# Altium footprint library PcbLib1.PcbLib: 24 footprints (part 1 of 2)
Each footprint in its own frame and in the unit in brackets; x right, y up, seen from the top. Pads: shape width x height; smd on the part's side, far side on the other; paste and mask are expansions set on the pad; w line width, h text height; cw(c..) or ccw(c..) is an arc to the next point about the centre after c.
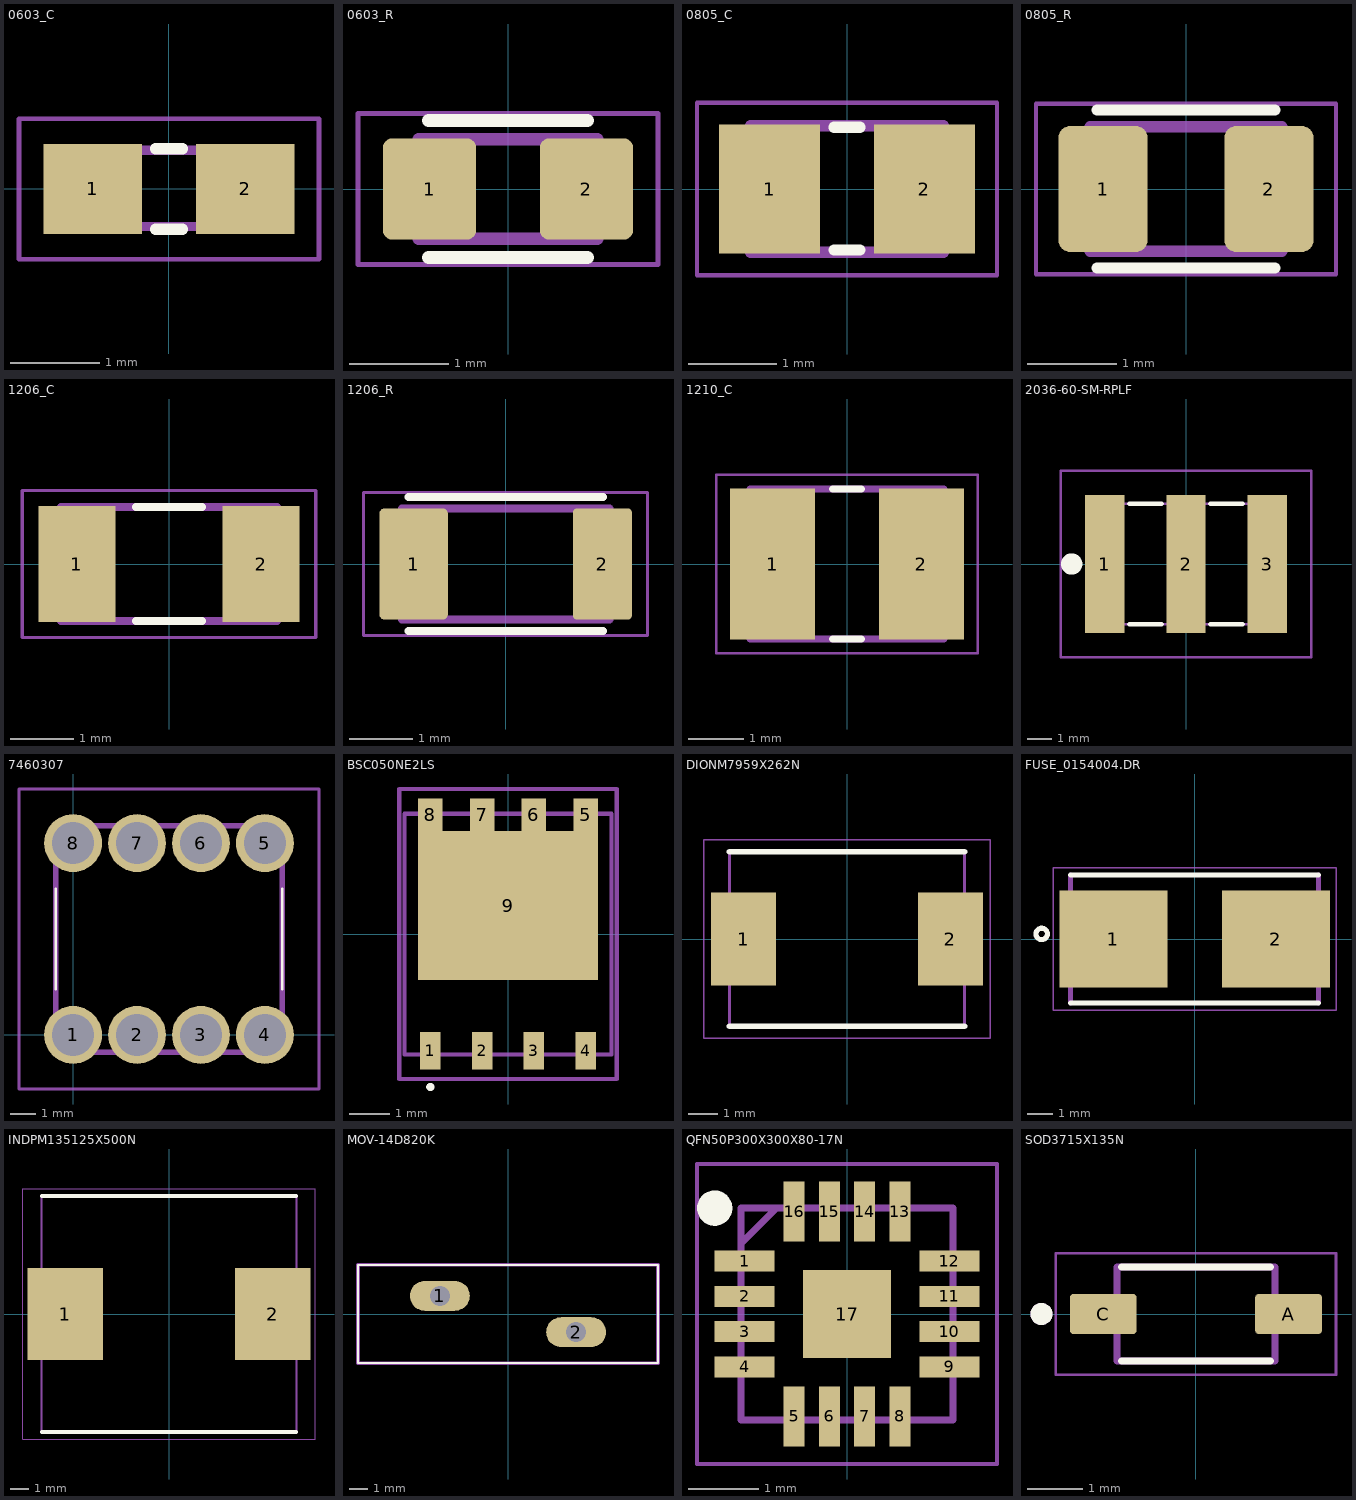
[diagram p0: the footprints below, top view; thin cyan lines are the x and y axes]

## 0603_C [mm]
pads (2):
  rect 1.1x1 smd: 1(-0.85,0) 2(0.85,0)
Top Overlay:
  lines w0.127: -0.15,-0.45 0.15,-0.45 ; -0.15,0.45 0.15,0.45
Mechanical 13:
  region: 0.83,-0.471 0.331,-0.471 0.331,0.48 0.83,0.48
  region: -0.338,-0.47 -0.839,-0.47 -0.839,0.48 -0.338,0.48
  lines w0.102: -0.356,-0.419 0.356,-0.419 ; -0.356,0.432 0.356,0.432
Mechanical 15:
  lines w0.051: -1.673,-0.783 -1.673,0.783 1.673,0.783 1.673,-0.783 -1.673,-0.783
3D body "06033C101MAT2A.STEP": height 0.89, standoff -0.01, extent -0.8,-0.405 0.8,0.405

## 0603_R [mm]
pads (2):
  rrect20% 0.94x1.02 smd: 1(-0.79,0) 2(0.79,0)
Top Overlay:
  lines w0.127: -0.8,-0.69 0.8,-0.69 ; -0.8,0.69 0.8,0.69
Mechanical 13:
  lines w0.127: -0.9,-0.5 -0.9,0.5 0.9,0.5 0.9,-0.5 -0.9,-0.5
Mechanical 15:
  lines w0.05: -1.51,-0.76 -1.51,0.76 1.51,0.76 1.51,-0.76 -1.51,-0.76
3D body "3-1879460-6.STEP": height 0.45, standoff 0, extent -0.8,-0.4 0.8,0.4

## 0805_C [mm]
pads (2):
  rect 1.15x1.47 smd: 1(-0.88,0) 2(0.88,0)
Top Overlay:
  lines w0.127: -0.15,-0.693 0.15,-0.693 ; -0.15,0.704 0.15,0.704
Mechanical 13:
  lines w0.127: -1.1,-0.72 -1.1,0.72 1.1,0.72 1.1,-0.72 -1.1,-0.72
Mechanical 15:
  lines w0.05: -1.708,-0.983 -1.708,0.983 1.708,0.983 1.708,-0.983 -1.708,-0.983
3D body "step_temp.STEP": height 1.45, standoff 0, extent -1,-0.625 1,0.625

## 0805_R [mm]
pads (2):
  rrect25% 1x1.42 smd: 1(-0.935,0) 2(0.935,0)
Top Overlay:
  lines w0.127: -1,-0.89 1,-0.89 ; -1,0.89 1,0.89
Mechanical 13:
  lines w0.127: -1.08,-0.7 -1.08,0.7 1.08,0.7 1.08,-0.7 -1.08,-0.7
Mechanical 15:
  lines w0.05: -1.69,-0.96 -1.69,0.96 1.69,0.96 1.69,-0.96 -1.69,-0.96
3D body "step_temp.STEP": height 0.6, standoff 0, extent -1,-0.625 1,0.625

## 1206_C [mm]
pads (2):
  rect 1.21x1.82 smd: 1(-1.45,0) 2(1.45,0)
Top Overlay:
  lines w0.127: -0.52,-0.9 0.52,-0.9 ; -0.52,0.9 0.52,0.9
Mechanical 13:
  lines w0.127: -1.7,-0.9 -1.7,0.9 1.7,0.9 1.7,-0.9 -1.7,-0.9
Mechanical 15:
  lines w0.05: -2.308,-1.158 -2.308,1.158 2.308,1.158 2.308,-1.158 -2.308,-1.158
3D body "step_temp.STEP": height 1.8, standoff 0, extent -1.6,-0.8 1.6,0.8

## 1206_R [mm]
pads (2):
  rrect14% 1.09x1.77 smd: 1(-1.465,0)
  rrect14% 0.94x1.77 smd: 2(1.54,0)
Top Overlay:
  lines w0.127: -1.55,-1.065 1.55,-1.065 ; -1.55,1.065 1.55,1.065
Mechanical 13:
  lines w0.127: -1.65,-0.88 1.65,-0.88 1.65,0.88 -1.65,0.88 -1.65,-0.88
Mechanical 15:
  lines w0.05: -2.26,-1.14 2.26,-1.14 2.26,1.14 -2.26,1.14 -2.26,-1.14
3D body "2-1879462-9.stp": height 0.55, standoff 0, extent -1.55,-0.775 1.55,0.775

## 1210_C [mm]
pads (2):
  rect 1.53x2.72 smd: 1(-1.341,0) 2(1.341,0)
Top Overlay:
  lines w0.127: -0.26,-1.35 0.26,-1.35 ; -0.26,1.35 0.26,1.35
Mechanical 13:
  lines w0.127: -1.75,-1.35 1.75,-1.35 1.75,1.35 -1.75,1.35 -1.75,-1.35
Mechanical 15:
  lines w0.05: -2.355,-1.608 2.355,-1.608 2.355,1.608 -2.355,1.608 -2.355,-1.608
3D body "GCM32ER70J476KE19L.STEP": height 2.69, standoff -0.01, extent -1.6,-1.25 1.6,1.25

## 2036-60-SM-RPLF [mm]
pads (3):
  rect 1.6x5.6 smd: 1(-3.3,0) 2(0,0) 3(3.3,0)
Top Overlay:
  lines w0.2: -2.3,-2.45 -1,-2.45 ; -2.3,2.45 -1,2.45 ; 1,-2.45 2.3,-2.45 ; 1,2.45 2.3,2.45
  lines w0.762: -4.7,0 cw(c-4.65,0) -4.6,0 cw(c-4.65,0) -4.7,0
Mechanical 13:
  lines w0.1: -3.6,-2.45 -3.6,2.45 3.6,2.45 3.6,-2.45 -3.6,-2.45
Mechanical 15:
  lines w0.1: -5.1,-3.8 -5.1,3.8 5.1,3.8 5.1,-3.8 -5.1,-3.8
3D body "GDT35-40-S1-RP.stp": height 5.01, standoff -0.09, extent -3.6,-2.55 3.6,2.55

## 7460307 [mm]
pads (8):
  round 2.3 hole 1.675: 1(0,0) 2(2.54,0) 3(5.08,0) 4(7.62,0) 5(7.62,7.62) 6(5.08,7.62) 7(2.54,7.62) 8(0,7.62)
Top Overlay:
  lines w0.1: -0.69,1.81 -0.69,5.81 ; 8.31,1.81 8.31,5.81
Mechanical 13:
  lines w0.2: -0.69,-0.69 8.31,-0.69 8.31,8.31 -0.69,8.31 -0.69,-0.69
Mechanical 15:
  lines w0.1: -2.15,-2.15 9.77,-2.15 9.77,9.77 -2.15,9.77 -2.15,-2.15
3D body "7460307.stp": height 7, standoff -3.5, extent -0.69,-0.69 8.31,8.31

## BSC050NE2LS [mm]
pads (9):
  rect 0.5x0.925 smd: 1(-1.905,-2.863) 2(-0.635,-2.863) 3(0.635,-2.863) 4(1.905,-2.863)
  rect 0.6x0.8 smd: 5(1.905,2.925) 6(0.635,2.925) 7(-0.635,2.925) 8(-1.905,2.925)
  rect 4.41x3.655 smd: 9(0,0.698)
Top Overlay:
  lines w0.1: -1.905,-3.8 cw(c-1.905,-3.75) -1.905,-3.7 cw(c-1.905,-3.75) -1.905,-3.8
Mechanical 13:
  lines w0.1: -2.538,-2.95 2.538,-2.95 2.538,2.95 -2.538,2.95 -2.538,-2.95
Mechanical 15:
  lines w0.1: -2.667,-3.556 2.667,-3.556 2.667,3.556 -2.667,3.556 -2.667,-3.556
3D body "BSC050NE2LS.stp": height 1.3, standoff 0, extent -2.538,-3.276 2.538,3.265

## DIONM7959X262N [mm]
pads (2):
  rect 2.2x3.15 smd: 1(-3.5,0) 2(3.5,0)
Top Overlay:
  lines w0.2: -3.97,-2.952 3.97,-2.952 ; -3.97,2.952 3.97,2.952
Mechanical 13:
  lines w0.1: -3.97,-2.952 3.97,-2.952 3.97,2.952 -3.97,2.952 -3.97,-2.952
Mechanical 15:
  lines w0.05: -4.85,-3.36 4.85,-3.36 4.85,3.36 -4.85,3.36 -4.85,-3.36
3D body "P3100S3NLRP.stp": height 2.62, standoff 0, extent -3.97,-2.953 3.97,2.953

## FUSE_0154004.DR [mm]
pads (2):
  rect 4.24x3.81 smd: 1(-3.19,0) 2(3.19,0)
Top Overlay:
  circle w0.2: c-6,0.2 r0.224
  lines w0.2: -4.863,-2.515 4.863,-2.515 ; -4.863,2.515 4.863,2.515
Mechanical 13:
  lines w0.2: -4.863,-2.515 -4.863,2.515 ; 4.863,-2.515 4.863,2.515
Mechanical 15:
  lines w0.05: -5.55,-2.8 5.55,-2.8 5.55,2.8 -5.55,2.8 -5.55,-2.8
3D body "0154004.DR--3DModel-STEP-56544.STEP": height 3.81, standoff 0, extent -4.865,-2.515 4.865,2.515

## INDPM135125X500N [mm]
pads (2):
  rect 4x4.9 smd: 1(-5.5,0) 2(5.5,0)
Top Overlay:
  lines w0.2: -6.75,-6.25 6.75,-6.25 ; -6.75,6.25 6.75,6.25
Mechanical 13:
  lines w0.1: -6.75,-6.25 -6.75,6.25 6.75,6.25 6.75,-6.25 -6.75,-6.25
Mechanical 15:
  lines w0.05: -7.75,-6.65 -7.75,6.65 7.75,6.65 7.75,-6.65 -7.75,-6.65
3D body "SRP1245A-2R2M.stp": height 5, standoff 0, extent -6.75,-6.25 6.75,6.25

## MOV-14D820K [mm]
pads (2):
  oval 3.3x1.65 hole 1.1: 1(-3.75,1) 2(3.75,-1)
Top Overlay:
  lines w0.1: -8.25,-2.7 8.25,-2.7 8.25,2.7 -8.25,2.7 -8.25,-2.7
Mechanical 13:
  lines w0.2: -8.25,-2.7 8.25,-2.7 8.25,2.7 -8.25,2.7 -8.25,-2.7
3D body "step_temp.STEP": height 20, standoff -20, extent -8.25,-2.2 8.25,2.2

## QFN50P300X300X80-17N [mm]
pads (17):
  rect 0.85x0.3 smd: 1(-1.45,0.75) 2(-1.45,0.25) 3(-1.45,-0.25) 4(-1.45,-0.75) 9(1.45,-0.75) 10(1.45,-0.25) 11(1.45,0.25) 12(1.45,0.75)
  rect 0.3x0.85 smd: 5(-0.75,-1.45) 6(-0.25,-1.45) 7(0.25,-1.45) 8(0.75,-1.45) 13(0.75,1.45) 14(0.25,1.45) 15(-0.25,1.45) 16(-0.75,1.45)
  rect 1.25x1.25 smd: 17(0,0)
Top Overlay:
  circle w0.25: c-1.875,1.5 r0.125
Mechanical 13:
  lines w0.1: -1.5,1 -1,1.5 ; -1.5,-1.5 1.5,-1.5 1.5,1.5 -1.5,1.5 -1.5,-1.5
Mechanical 15:
  lines w0.05: -2.125,-2.125 2.125,-2.125 2.125,2.125 -2.125,2.125 -2.125,-2.125
3D body "MAX17598ATE+T.stp": height 0.8, standoff 0, extent -1.55,-1.55 1.55,1.55

## SOD3715X135N [mm]
pads (2):
  rrect18% 1.21x0.73 smd: A(1.68,0) C(-1.68,0)
Top Overlay:
  circle w0.2: c-2.8,0 r0.1
  lines w0.127: -1.35,-0.85 1.35,-0.85 ; -1.35,0.85 1.35,0.85
Mechanical 13:
  circle w0.2: c-2.8,0 r0.1
  lines w0.127: -1.43,-0.85 1.43,-0.85 1.43,0.85 -1.43,0.85 -1.43,-0.85
Mechanical 15:
  lines w0.05: -2.54,-1.1 2.54,-1.1 2.54,1.1 -2.54,1.1 -2.54,-1.1
3D body "step_temp.STEP": height 1.43, standoff -0.02, extent -1.825,-0.775 1.825,0.775